# EAGLE library part 50MILX20SMD (library Traficon)
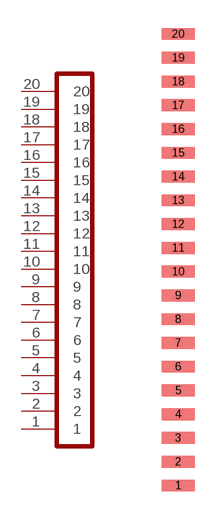
[diagram p20: symbol with the pads of 50MILX20SMD; footprint 50MILX20SMD]

Designator prefix HD

## 50MILX20SMD  [50MILX20SMD]
1  1  pas
2  2  pas
3  3  pas
4  4  pas
5  5  pas
6  6  pas
7  7  pas
8  8  pas
9  9  pas
10  10  pas
11  11  pas
12  12  pas
13  13  pas
14  14  pas
15  15  pas
16  16  pas
17  17  pas
18  18  pas
19  19  pas
20  20  pas

## Footprint 50MILX20SMD (pad centres in mm)
smd 1.778 x 0.635: 1 0,-12.065; 2 0,-10.795; 3 0,-9.525; 4 0,-8.255; 5 0,-6.985; 6 0,-5.715; 7 0,-4.445; 8 0,-3.175; 9 0,-1.905; 10 0,-0.635; 11 0,0.635; 12 0,1.905; 13 0,3.175; 14 0,4.445; 15 0,5.715; 16 0,6.985; 17 0,8.255; 18 0,9.525; 19 0,10.795; 20 0,12.065